# EAGLE library part 1_X_6_HEADER_GENERIC_.1INCH (library 3D_MIG_Controller)
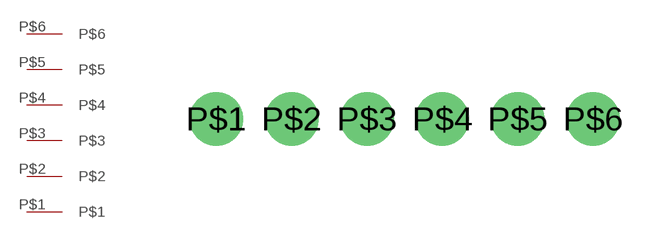
[diagram p80: symbol with the pads of HEADER_1_X_6_.1_INCH; footprint HEADER_1_X_6_.1_INCH]

Designator prefix H

## 1_X_6_HEADER_GENERIC_.1INCH  [HEADER_1_X_6_.1_INCH]
P$1  P$1
P$2  P$2
P$3  P$3
P$4  P$4
P$5  P$5
P$6  P$6

## Footprint HEADER_1_X_6_.1_INCH (pad centres in mm)
drill 1.2 pad 1.6: P$1 -6.35,0; P$2 -3.81,0; P$3 -1.27,0; P$4 1.27,0; P$5 3.81,0; P$6 6.35,0